# Altium footprint library LED.PcbLib: 35 footprints (part 2 of 3)
Each footprint in its own frame and in the unit in brackets; x right, y up, seen from the top. Pads: shape width x height; smd on the part's side, far side on the other; paste and mask are expansions set on the pad; w line width, h text height; cw(c..) or ccw(c..) is an arc to the next point about the centre after c.
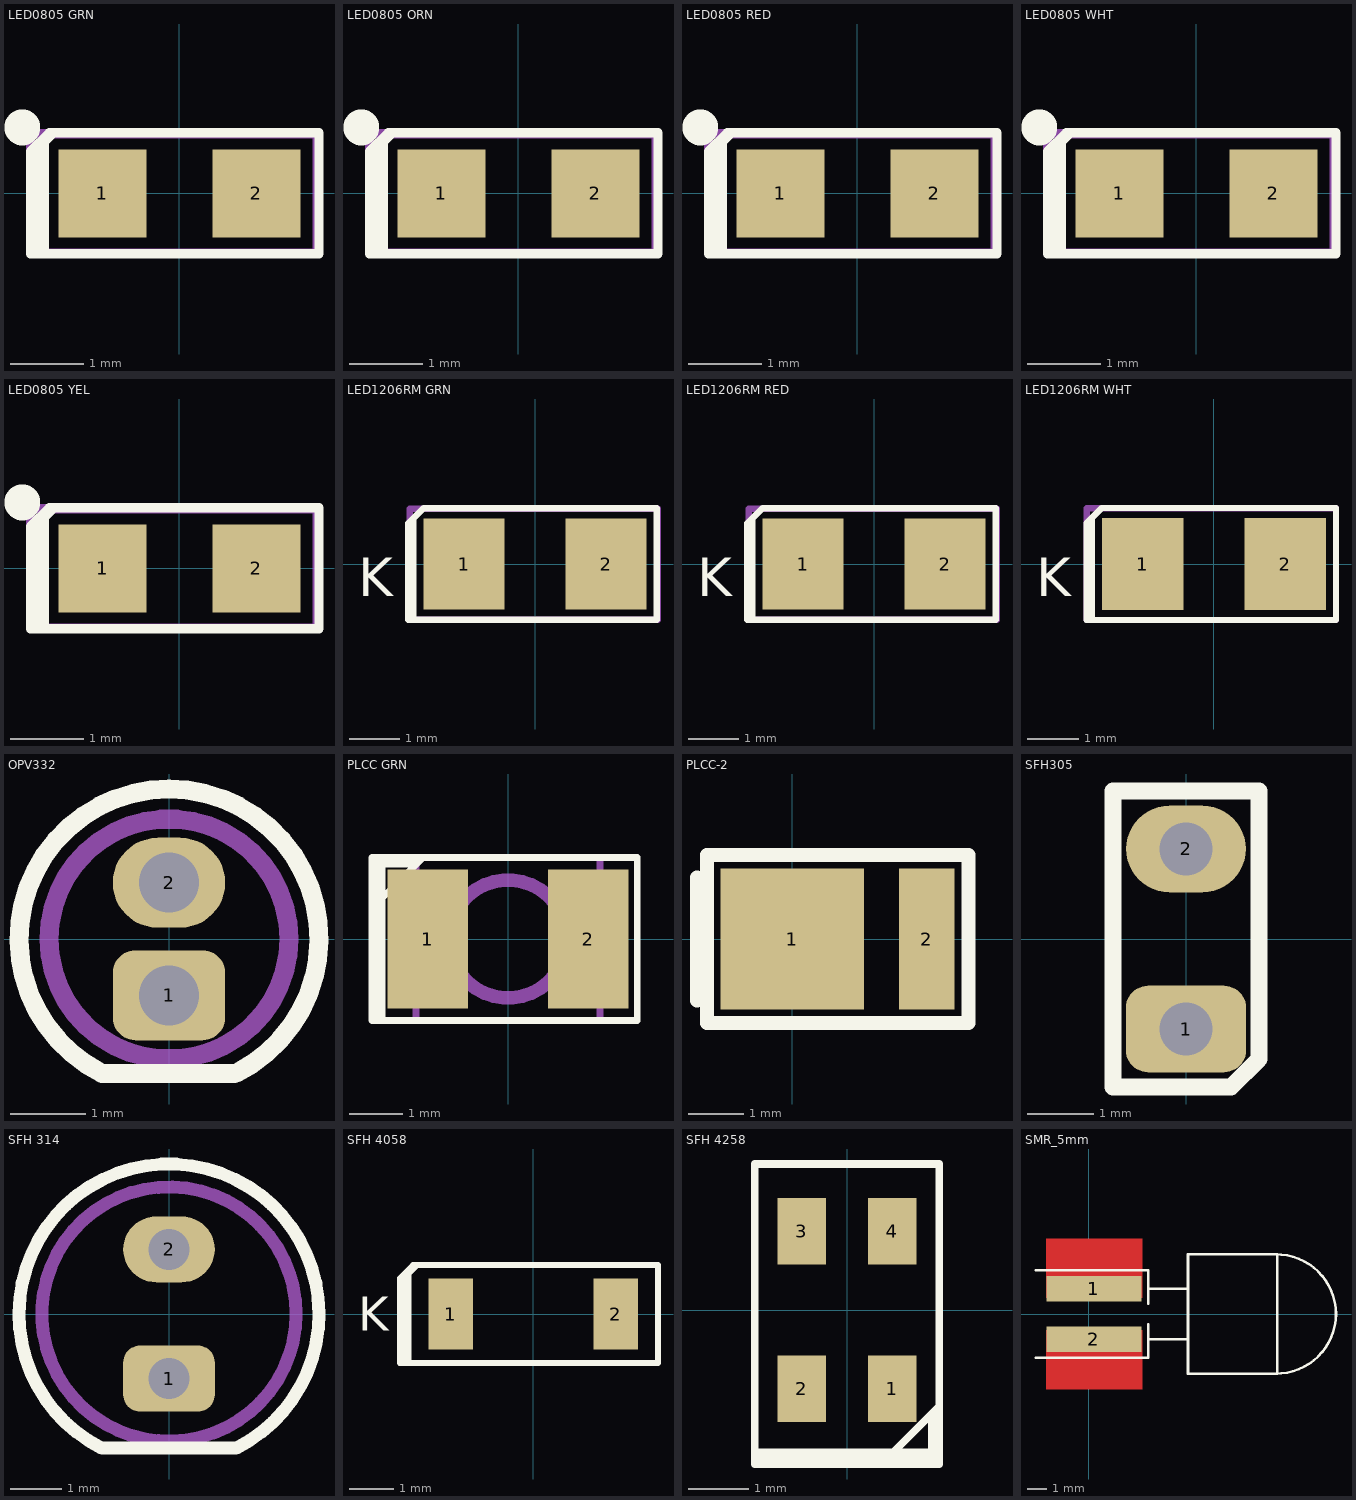
[diagram p1: the footprints below, top view; thin cyan lines are the x and y axes]

## LED0805 GRN [mm]
pads (2):
  rect 1.2x1.2 smd: 1(-1.05,0) 2(1.05,0)
Top Overlay:
  circle w0.4: c-2.145,0.9 r0.045
  lines w0.127: -2.032,0.508 -1.714,0.826 ; -1.968,-0.826 -1.968,0.635 ; -1.905,-0.826 -1.905,0.699 ; -1.841,-0.826 -1.841,0.762 ; -2.032,-0.826 1.905,-0.826 1.905,0.826 -1.778,0.826 -2.032,0.572 -2.032,-0.826
Mechanical 15:
  lines w0.127: -2.032,-0.813 1.88,-0.813 1.88,0.813 -2.032,0.813 -2.032,-0.813
  text ".Designator" at 0,0 h0.76
3D body "LED0805GRN.STEP": height 1.1, standoff 0, extent -1.01,-0.625 1.01,0.625

## LED0805 ORN [mm]
pads (2):
  rect 1.2x1.2 smd: 1(-1.05,0) 2(1.05,0)
Top Overlay:
  circle w0.4: c-2.145,0.9 r0.045
  lines w0.127: -2.032,0.508 -1.714,0.826 ; -1.968,-0.826 -1.968,0.635 ; -1.905,-0.826 -1.905,0.699 ; -1.841,-0.826 -1.841,0.762 ; -2.032,-0.826 1.905,-0.826 1.905,0.826 -1.778,0.826 -2.032,0.572 -2.032,-0.826
Mechanical 15:
  lines w0.127: -2.032,-0.813 1.88,-0.813 1.88,0.813 -2.032,0.813 -2.032,-0.813
  text ".Designator" at 0,0 h0.76
3D body "LED0805ORN.step": height 1.1, standoff 0, extent -1.01,-0.625 1.01,0.625

## LED0805 RED [mm]
pads (2):
  rect 1.2x1.2 smd: 1(-1.05,0) 2(1.05,0)
Top Overlay:
  circle w0.4: c-2.145,0.9 r0.045
  lines w0.127: -2.032,0.508 -1.714,0.826 ; -1.968,-0.826 -1.968,0.635 ; -1.905,-0.826 -1.905,0.699 ; -1.841,-0.826 -1.841,0.762 ; -2.032,-0.826 1.905,-0.826 1.905,0.826 -1.778,0.826 -2.032,0.572 -2.032,-0.826
Mechanical 15:
  lines w0.127: -2.032,-0.813 1.88,-0.813 1.88,0.813 -2.032,0.813 -2.032,-0.813
  text ".Designator" at 0,0 h0.76
3D body "LED0805RED.step": height 1.1, standoff 0, extent -1.01,-0.625 1.01,0.625

## LED0805 WHT [mm]
pads (2):
  rect 1.2x1.2 smd: 1(-1.05,0) 2(1.05,0)
Top Overlay:
  circle w0.4: c-2.145,0.9 r0.045
  lines w0.127: -2.032,0.508 -1.714,0.826 ; -1.968,-0.826 -1.968,0.635 ; -1.905,-0.826 -1.905,0.699 ; -1.841,-0.826 -1.841,0.762 ; -2.032,-0.826 -2.032,0.572 -1.778,0.826 1.905,0.826 1.905,-0.826 -2.032,-0.826
Mechanical 15:
  lines w0.127: -2.032,-0.813 1.88,-0.813 1.88,0.813 -2.032,0.813 -2.032,-0.813
  text ".Designator" at 0,0 h0.76
3D body "LED0805WHT.step": height 1.1, standoff 0, extent -1.01,-0.625 1.01,0.625

## LED0805 YEL [mm]
pads (2):
  rect 1.2x1.2 smd: 1(-1.05,0) 2(1.05,0)
Top Overlay:
  circle w0.4: c-2.145,0.9 r0.045
  lines w0.127: -2.032,0.508 -1.714,0.826 ; -1.968,-0.826 -1.968,0.635 ; -1.905,-0.826 -1.905,0.699 ; -1.841,-0.826 -1.841,0.762 ; -2.032,-0.826 -2.032,0.572 -1.778,0.826 1.905,0.826 1.905,-0.826 -2.032,-0.826
Mechanical 15:
  lines w0.127: -2.032,-0.813 1.88,-0.813 1.88,0.813 -2.032,0.813 -2.032,-0.813
  text ".Designator" at 0,0 h0.76
3D body "LED0805YEL.STEP": height 1.1, standoff 0, extent -1.01,-0.625 1.01,0.625

## LED1206RM GRN [mm]
pads (2):
  rect 1.6x1.8 smd: 1(-1.4,0) 2(1.4,0)
Top Overlay:
  lines w0.127: -2.4,-1.1 -2.4,0.9 ; -2.5,-1.1 2.4,-1.1 2.4,1.1 -2.2,1.1 -2.5,0.8 -2.5,-1.1
  text "K" at -3.492,-0.635 h0.76
Mechanical 15:
  lines w0.127: -2.475,-1.1 -2.475,1.092 2.425,1.092 2.425,-1.1 -2.475,-1.1
  text ".Designator" at 0,-0.025 h0.76
3D body "LED_1206_RM GREEN.STEP": height 1.35, standoff 0, extent -1.61,-0.787 1.61,0.813

## LED1206RM RED [mm]
pads (2):
  rect 1.6x1.8 smd: 1(-1.4,0) 2(1.4,0)
Top Overlay:
  lines w0.127: -2.4,-1.1 -2.4,0.9 ; -2.5,-1.1 -2.5,0.8 -2.2,1.1 2.4,1.1 2.4,-1.1 -2.5,-1.1
  text "K" at -3.492,-0.635 h0.76
Mechanical 15:
  lines w0.127: -2.475,-1.1 2.425,-1.1 2.425,1.092 -2.475,1.092 -2.475,-1.1
  text ".Designator" at 0,-0.025 h0.76
3D body "LED_1206_RM RED.STEP": height 1.35, standoff 0, extent -1.61,-0.8 1.61,0.8

## LED1206RM WHT [mm]
pads (2):
  rect 1.6x1.8 smd: 1(-1.4,0) 2(1.4,0)
Top Overlay:
  lines w0.127: -2.4,-1.1 -2.4,0.9 ; -2.5,-1.1 2.4,-1.1 2.4,1.1 -2.2,1.1 -2.5,0.8 -2.5,-1.1
  text "K" at -3.492,-0.635 h0.76
Mechanical 15:
  lines w0.127: -2.5,-1.1 2.4,-1.1 2.4,1.092 -2.5,1.092 -2.5,-1.1
  text ".Designator" at -0.025,-0.025 h0.76
3D body "LED_1206_RM WHT.STEP": height 1.35, standoff 0, extent -1.584,-0.8 1.636,0.8

## OPV332 [mm]
pads (2):
  rrect50% 1.5x1.2 hole 0.8: 1(0,-0.75)
  oval 1.5x1.2 hole 0.8: 2(0,0.75)
Top Overlay:
  lines w0.254: -0.896,-1.791 0.876,-1.791 ; -0.896,-1.788 cw(c0,0) 0.896,-1.788
Mechanical 1:
  circle w0.254: c0,0 r1.6

## PLCC GRN [mm]
pads (2):
  rect 1.5x2.6 smd: 1(-1.5,0) 2(1.5,0)
Top Overlay:
  lines w0.127: -2.54,1.397 -1.714,1.397 ; -2.476,-1.524 -2.476,1.524 ; -2.413,-1.524 -2.413,0.762 ; -2.413,1.524 -2.413,0.699 -1.587,1.524 -2.54,1.524 -2.54,-1.524 2.413,-1.524 2.413,1.524 -1.714,1.524 ; -2.349,-1.524 -2.349,1.524 ; -2.349,1.46 -1.714,1.46
Mechanical 1:
  circle w0.254: c0,0 r1.1
  lines w0.127: -1.714,1.524 -1.714,-1.524 1.714,-1.524 1.714,1.524 -1.587,1.524
3D body "PLCCGRN.STEP": height 1.98, standoff 0, extent -1.85,-1.5 1.85,1.5

## PLCC-2 [mm]
pads (2):
  rect 2.6x2.55 smd: 1(0,0)
  rect 1x2.55 smd: 2(2.438,0)
Top Overlay:
  lines w0.254: -1.727,-1.118 -1.727,1.118 ; -1.549,-1.524 -1.549,1.524 3.2,1.524 3.2,-1.524 -1.549,-1.524
3D body "User Library-Everlight 67-21SRC-TR8.STEP": height 1.86, standoff 0, extent -0.963,-1.4 2.537,1.4

## SFH305 [mm]
pads (2):
  rrect50% 1.8x1.3 hole 0.8: 1(0,-1.35)
  oval 1.8x1.3 hole 0.8: 2(0,1.35)
Top Overlay:
  lines w0.051: 0.575,-1.5 0.575,-0.75
  lines w0.254: -1.092,-2.222 -1.092,2.222 1.092,2.222 1.092,-1.803 0.673,-2.222 -1.092,-2.222

## SFH 314 [mm]
pads (2):
  rrect50% 1.8x1.3 hole 0.8: 1(0,-1.27)
  oval 1.8x1.3 hole 0.8: 2(0,1.27)
Top Overlay:
  lines w0.254: -1.321,-2.638 cw(c0,0) 1.321,-2.638 -1.32,-2.638
Mechanical 1:
  circle w0.254: c0,0 r2.5

## SFH 4058 [mm]
pads (2):
  rect 1x1.6 smd: 1(-1.85,0) 2(1.85,0)
Top Overlay:
  lines w0.127: -3,0.7 -2.6,1.1 ; -2.9,-1.1 -2.9,0.9 ; -2.8,-1.1 -2.8,1 ; 2.8,-1.1 -3,-1.1 -3,0.8 -2.7,1.1 2.8,1.1 ; 2.803,-1.1 2.803,1.1
  text "K" at -3.937,-0.381 h0.76

## SFH 4258 [mm]
pads (4):
  rect 0.8x1.1 smd: 1(0.75,-1.3) 2(-0.75,-1.3) 3(-0.75,1.3) 4(0.75,1.3)
Top Overlay:
  lines w0.127: -1.524,-2.476 1.524,-2.476 ; -1.524,-2.413 0.762,-2.413 ; -1.524,-2.349 1.524,-2.349 ; 1.397,-2.54 1.397,-1.714 ; 1.46,-2.349 1.46,-1.714 ; 1.524,-2.413 0.699,-2.413 1.524,-1.587 1.524,-2.54 -1.524,-2.54 -1.524,2.413 1.524,2.413 1.524,-1.714

## SMR_5mm [mm]
pads (2):
  rect 4.8x1.3 smd: 1(0.25,1.27) 2(0.25,-1.27)
Top Layer:
  rectangle: -2.159,-3.81 2.7,-0.81
  rectangle: -2.159,0.81 2.7,3.81
Top Overlay:
  lines w0.127: -2.667,-2.2 3,-2.2 3,-0.508 ; -2.667,2.2 3,2.2 3,0.508 ; 3.048,-1.27 4.953,-1.27 ; 3.048,1.27 4.953,1.27 ; 9.399,-3 ccw(c9.448,0) 9.399,3 ; 4.992,-3 9.492,-3 9.492,3 4.992,3 4.992,-3
3D body "User Library-LED-3.step": height 5.8, standoff 0.3, extent 0.727,-2.921 12.227,3.077